# EAGLE library part AMC1200-Q1 (library AC_Motor_Control)
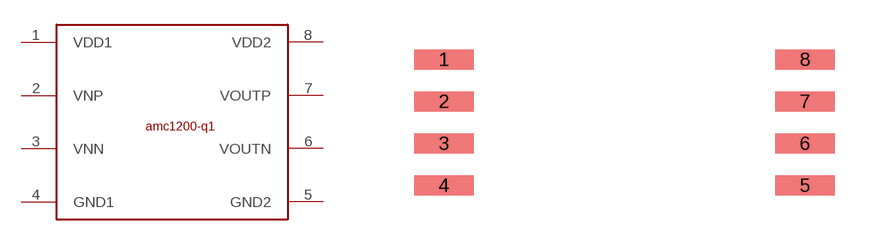
[diagram p1: symbol with the pads of 8PIN-S0P; footprint 8PIN-S0P]

Designator prefix -

## AMC1200-Q1  [8PIN-S0P]
1  VDD1
2  VNP
3  VNN
4  GND1
5  GND2
6  VOUTN
7  VOUTP
8  VDD2

## Footprint 8PIN-S0P (pad centres in mm)
smd 1.8 x 0.6: 1 0,3.81; 2 0,2.54; 3 0,1.27; 4 0,0; 5 10.9,0; 6 10.9,1.27; 7 10.9,2.54; 8 10.9,3.81